# Altium integrated library Switchs.IntLib: 3 symbols
Pins are listed as number, name and electrical type; pins without a type are passive.

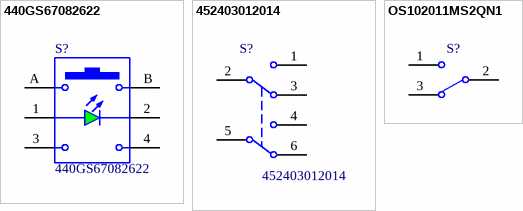
[diagram p0: symbols 440GS67082622 to OS102011MS2QN1]

## 440GS67082622
designator S?
WS-TATL Illuminated THT Tact Switch, Green; Manufacturer: Wurth Elektronik; ComponentLink1Description: Datasheet; ComponentLink1URL: https://katalog.we-online.com/em/datasheet/440GS67082622.pdf; ComponentLink2Description: Manufacturer; ComponentLink2URL: https://www.we-online.com/catalog/en/TATL_12X12_THT/?sq=440GS67082622#440GS67082622; Manufacturer Part Number: 440GS67082622; Supplier 1: Farnell; Supplier Part Number 1: 2402381
footprint 440xx67082622
pins: 1, 2, 3, 4, A, B

## 452403012014
designator S?
SWITCH SLIDE DPDT 300mA 6V; Manufacturer: Wurth Electronics Inc.; Supplier 1: Digi-Key; Manufacturer Part Number: 452403012014; ComponentLink1URL: http://katalog.we-online.de/em/datasheet/452403012014.pdf; ComponentLink1Description: Datasheet; Supplier Part Number 1: 732-10145-1-ND
footprint 452403012014 (WS-SLSV Slide Switch, SMD version, same side connection)
pins: 1, 2 COM1, 3, 4, 5 COM2, 6

## OS102011MS2QN1
designator S?  (value not drawn)
SWITCH SLIDE SPDT 0.1A 12V (500VDC max); Manufacturer: C & K COMPONENTS; Supplier 1: Farnell; Supplier Part Number 1: 1201430; Manufacturer Part Number: OS102011MS2QN1; ComponentLink2URL: https://www.ckswitches.com/products/switches/product-details/Slide/OS/OS102011MS2QN1/; ComponentLink2Description: Manufacturer; ComponentLink1Description: Datasheet; ComponentLink1URL: https://www.ckswitches.com/media/1428/os.pdf
footprint SW_OS102011MS2QN1
pins: 1, 2, 3